# EAGLE library part BQ25010RHLR (library BQ25010RHLR)
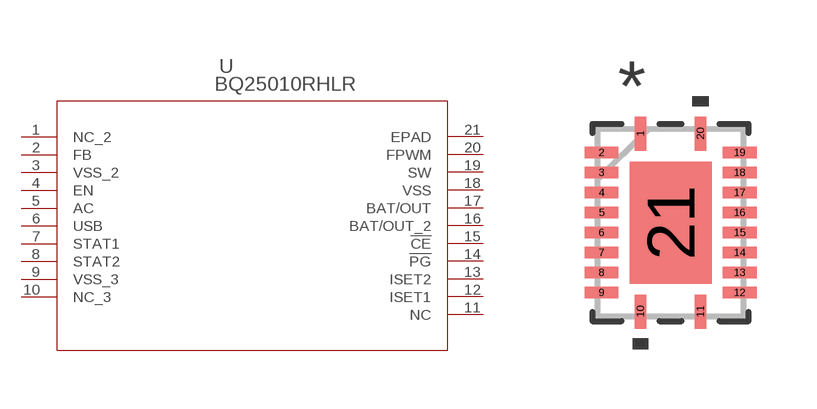
[diagram p0: symbol with the pads of RHL20_2P05X3P05; footprint RHL20_2P05X3P05]

Designator prefix U

## BQ25010RHLR (MANUFACTURER_PART_NUMBER: BQ25010RHLR; VENDOR: Texas Instruments)  [RHL20_2P05X3P05]
1  NC_2  nc
2  FB  in
3  VSS_2  pwr
4  EN  in
5  AC  in
6  USB  in
7  STAT1  out
8  STAT2  out
9  VSS_3  pwr
10  NC_3  nc
11  NC  nc
12  ISET1  in
13  ISET2  in
14  !PG  out
15  !CE  in
16  BAT/OUT_2
17  BAT/OUT  in
18  VSS  pwr
19  SW  out
20  FPWM  in
21  EPAD  pas

## Footprint RHL20_2P05X3P05 (pad centres in mm)
smd 0.28 x 0.85: 1 -0.75,2.225; 10 -0.75,-2.225; 11 0.75,-2.225; 20 0.75,2.225
smd 0.85 x 0.28: 2 -1.725,1.75; 3 -1.725,1.25; 4 -1.725,0.75; 5 -1.725,0.25; 6 -1.725,-0.25; 7 -1.725,-0.75; 8 -1.725,-1.25; 9 -1.725,-1.75; 12 1.725,-1.75; 13 1.725,-1.25; 14 1.725,-0.75; 15 1.725,-0.25; 16 1.725,0.25; 17 1.725,0.75; 18 1.725,1.25; 19 1.725,1.75
smd 2.05 x 3.05: 21 0,0